# Altium schematic symbol library SRR1260-101M.SchLib: 1 symbol
Pins are listed as number, name and electrical type; pins without a type are passive.

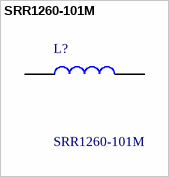
[diagram p0: symbol SRR1260-101M]

## SRR1260-101M
designator L?
Bourns SRR1260 Series Type 1260 Shielded Wire-wound SMD Inductor with a Ferrite Core, 100 uH +/-20% Wire-Wound 1.7A Idc; Geometry.Height: 6.5mm; Manufacturer_Name: Bourns; Manufacturer_Part_Number: SRR1260-101M; Mouser Part Number: 652-SRR1260-101M; Mouser Price/Stock: https://www.mouser.co.uk/ProductDetail/Bourns/SRR1260-101M?qs=uD%2FoUDWqfvQozr%2Ff4%252BPuSQ%3D%3D; Arrow Part Number: SRR1260-101M; Arrow Price/Stock: https://www.arrow.com/en/products/srr1260-101m/bourns?utm_currency=USD&region=nac; Datasheet Link: https://componentsearchengine.com/Datasheets/1/SRR1260-101M.pdf
footprint SRR1260101M
pins: 1, 2